# Altium footprint library HANDS-FREEE-PcbLib-V1.10.PcbLib: 197 footprints (part 10 of 13)
Each footprint in its own frame and in the unit in brackets; x right, y up, seen from the top. Pads: shape width x height; smd on the part's side, far side on the other; paste and mask are expansions set on the pad; w line width, h text height; cw(c..) or ccw(c..) is an arc to the next point about the centre after c.
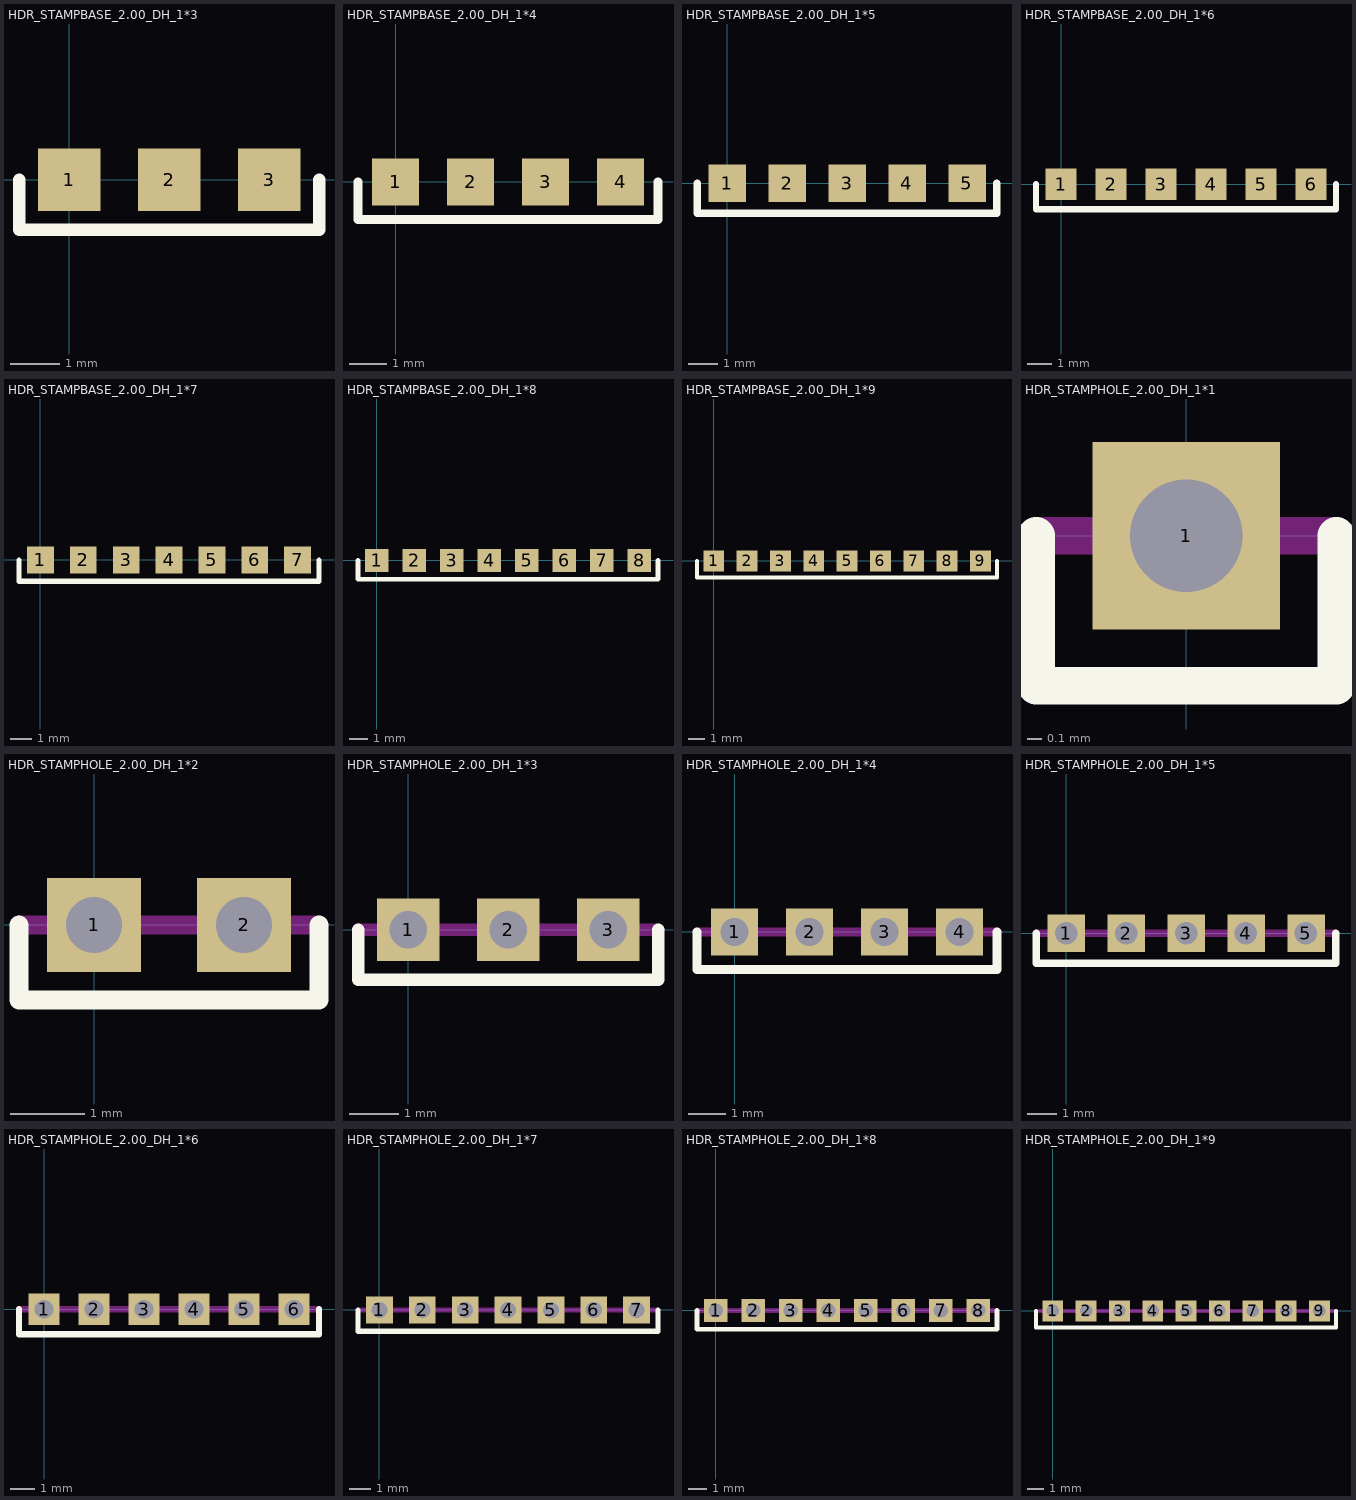
[diagram p9: the footprints below, top view; thin cyan lines are the x and y axes]

## HDR_STAMPBASE_2.00_DH_1*3 [mil]
pads (3):
  rect 50x50 smd: 1(0,0) 2(80,0) 3(160,0)
Top Overlay:
  lines w10: -40,0 -40,-40 200,-40 200,0

## HDR_STAMPBASE_2.00_DH_1*4 [mil]
pads (4):
  rect 50x50 smd: 1(0,0) 2(80,0) 3(160,0) 4(240,0)
Top Overlay:
  lines w10: -40,0 -40,-40 280,-40 280,0

## HDR_STAMPBASE_2.00_DH_1*5 [mil]
pads (5):
  rect 50x50 smd: 1(0,0) 2(80,0) 3(160,0) 4(240,0) 5(320,0)
Top Overlay:
  lines w10: -40,0 -40,-40 360,-40 360,0

## HDR_STAMPBASE_2.00_DH_1*6 [mil]
pads (6):
  rect 50x50 smd: 1(0,0) 2(80,0) 3(160,0) 4(240,0) 5(320,0) 6(400,0)
Top Overlay:
  lines w10: -40,0 -40,-40 440,-40 440,0

## HDR_STAMPBASE_2.00_DH_1*7 [mil]
pads (7):
  rect 50x50 smd: 1(0,0) 2(80,0) 3(160,0) 4(240,0) 5(320,0) 6(400,0) 7(480,0)
Top Overlay:
  lines w10: -40,0 -40,-40 520,-40 520,0

## HDR_STAMPBASE_2.00_DH_1*8 [mil]
pads (8):
  rect 50x50 smd: 1(0,0) 2(80,0) 3(160,0) 4(240,0) 5(320,0) 6(400,0) 7(480,0) 8(560,0)
Top Overlay:
  lines w10: -40,0 -40,-40 600,-40 600,0

## HDR_STAMPBASE_2.00_DH_1*9 [mil]
pads (9):
  rect 50x50 smd: 1(0,0) 2(80,0) 3(160,0) 4(240,0) 5(320,0) 6(400,0) 7(480,0) 8(560,0) 9(640,0)
Top Overlay:
  lines w10: -40,0 -40,-40 680,-40 680,0

## HDR_STAMPHOLE_2.00_DH_1*1 [mil]
pads (1):
  rect 50x50 hole 30: 1(0,0)
Top Overlay:
  lines w10: -40,0 -40,-40 40,-40 40,0
Keep-Out Layer:
  lines w10: -40,0 40,0

## HDR_STAMPHOLE_2.00_DH_1*2 [mil]
pads (2):
  rect 50x50 hole 30: 1(0,0) 2(80,0)
Top Overlay:
  lines w10: -40,0 -40,-40 120,-40 120,0
Keep-Out Layer:
  lines w10: -40,0 120,0

## HDR_STAMPHOLE_2.00_DH_1*3 [mil]
pads (3):
  rect 50x50 hole 30: 1(0,0) 2(80,0) 3(160,0)
Top Overlay:
  lines w10: -40,0 -40,-40 200,-40 200,0
Keep-Out Layer:
  lines w10: -40,0 200,0

## HDR_STAMPHOLE_2.00_DH_1*4 [mil]
pads (4):
  rect 50x50 hole 30: 1(0,0) 2(80,0) 3(160,0) 4(240,0)
Top Overlay:
  lines w10: -40,0 -40,-40 280,-40 280,0
Keep-Out Layer:
  lines w10: -40,0 280,0

## HDR_STAMPHOLE_2.00_DH_1*5 [mil]
pads (5):
  rect 50x50 hole 30: 1(0,0) 2(80,0) 3(160,0) 4(240,0) 5(320,0)
Top Overlay:
  lines w10: -40,0 -40,-40 360,-40 360,0
Keep-Out Layer:
  lines w10: -40,0 360,0

## HDR_STAMPHOLE_2.00_DH_1*6 [mil]
pads (6):
  rect 50x50 hole 30: 1(0,0) 2(80,0) 3(160,0) 4(240,0) 5(320,0) 6(400,0)
Top Overlay:
  lines w10: -40,0 -40,-40 440,-40 440,0
Keep-Out Layer:
  lines w10: -40,0 440,0

## HDR_STAMPHOLE_2.00_DH_1*7 [mil]
pads (7):
  rect 50x50 hole 30: 1(0,0) 2(80,0) 3(160,0) 4(240,0) 5(320,0) 6(400,0) 7(480,0)
Top Overlay:
  lines w10: -40,0 -40,-40 520,-40 520,0
Keep-Out Layer:
  lines w10: -40,0 520,0

## HDR_STAMPHOLE_2.00_DH_1*8 [mil]
pads (8):
  rect 50x50 hole 30: 1(0,0) 2(80,0) 3(160,0) 4(240,0) 5(320,0) 6(400,0) 7(480,0) 8(560,0)
Top Overlay:
  lines w10: -40,0 -40,-40 600,-40 600,0
Keep-Out Layer:
  lines w10: -40,0 600,0

## HDR_STAMPHOLE_2.00_DH_1*9 [mil]
pads (9):
  rect 50x50 hole 30: 1(0,0) 2(80,0) 3(160,0) 4(240,0) 5(320,0) 6(400,0) 7(480,0) 8(560,0) 9(640,0)
Top Overlay:
  lines w10: -40,0 -40,-40 680,-40 680,0
Keep-Out Layer:
  lines w10: -40,0 680,0